# Altium schematic symbol library ICE40HX1K-TQ144.SchLib: 1 symbol
Pins are listed as number, name and electrical type; pins without a type are passive.

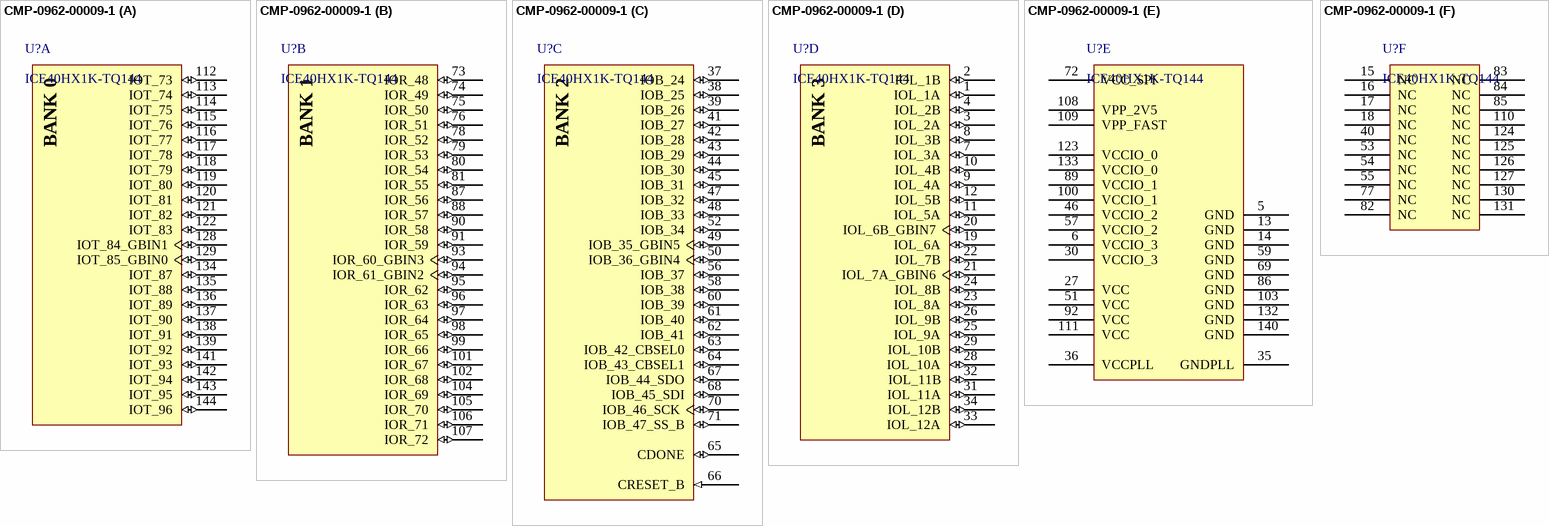
[diagram p0: symbol CMP-0962-00009-1]

## CMP-0962-00009-1
designator U?, comment ICE40HX1K-TQ144
iCE40 HX1K Series FPGA Family, 1280 Logic Cells, 1.2 V Core, 64 K Embedded RAM Bits, 144-pin TQFP, Pb-Free, Tray; Manufacturer: Lattice Semiconductor; Embedded RAM Bits: 64K; Logic Cells: 1280; Phase-Locked Loops: 1; Supply Voltage: 1.2V; Mounting Technology: Surface Mount; ComponentLink3URL: http://www.latticesemi.com/lit/docs/package/pkg.pdf; ComponentLink1URL: http://www.latticesemi.com/en; ComponentLink2Description: Datasheet; RoHS: TRUE; ComponentLink2URL: http://www.latticesemi.com/~/media/Documents/DataSheets/iCE/iCE40LPHXFamilyDataSheet.pdf; PackageVersion: Rev. 03.9, 02/2013; ComponentLink1Description: Manufacturer URL; PartNumber: ICE40HX1K-TQ144; DatasheetVersion: Rev. 02.9; PackageReference: TQFP-144; PackageDescription: 144-Pin Thin Quad Flat Package, Body 20 x 20 mm, Pitch 0.5 mm; Packing: Tray; ComponentLink3Description: Package Specification
footprint LATC-TQFP-144_L (QFP, 144-Leads, Body 20x20mm, Pitch 0.5mm, IPC High Density)
footprint LATC-TQFP-144_N (QFP, 144-Leads, Body 20x20mm, Pitch 0.5mm, IPC Medium Density)
footprint LATC-TQFP-144_M (QFP, 144-Leads, Body 20x20mm, Pitch 0.5mm, IPC Low Density)
part A pins: 112 IOT_73 (io), 113 IOT_74 (io), 114 IOT_75 (io), 115 IOT_76 (io), 116 IOT_77 (io), 117 IOT_78 (io), 118 IOT_79 (io), 119 IOT_80 (io), 120 IOT_81 (io), 121 IOT_82 (io), 122 IOT_83 (io), 128 IOT_84_GBIN1 (io), 129 IOT_85_GBIN0 (io), 134 IOT_87 (io), 135 IOT_88 (io), 136 IOT_89 (io), 137 IOT_90 (io), 138 IOT_91 (io), 139 IOT_92 (io), 141 IOT_93 (io), 142 IOT_94 (io), 143 IOT_95 (io), 144 IOT_96 (io)
part B pins: 73 IOR_48 (io), 74 IOR_49 (io), 75 IOR_50 (io), 76 IOR_51 (io), 78 IOR_52 (io), 79 IOR_53 (io), 80 IOR_54 (io), 81 IOR_55 (io), 87 IOR_56 (io), 88 IOR_57 (io), 90 IOR_58 (io), 91 IOR_59 (io), 93 IOR_60_GBIN3 (io), 94 IOR_61_GBIN2 (io), 95 IOR_62 (io), 96 IOR_63 (io), 97 IOR_64 (io), 98 IOR_65 (io), 99 IOR_66 (io), 101 IOR_67 (io), 102 IOR_68 (io), 104 IOR_69 (io), 105 IOR_70 (io), 106 IOR_71 (io), 107 IOR_72 (io)
part C pins: 37 IOB_24 (io), 38 IOB_25 (io), 39 IOB_26 (io), 41 IOB_27 (io), 42 IOB_28 (io), 43 IOB_29 (io), 44 IOB_30 (io), 45 IOB_31 (io), 47 IOB_32 (io), 48 IOB_33 (io), 49 IOB_35_GBIN5 (io), 50 IOB_36_GBIN4 (io), 52 IOB_34 (io), 56 IOB_37 (io), 58 IOB_38 (io), 60 IOB_39 (io), 61 IOB_40 (io), 62 IOB_41 (io), 63 IOB_42_CBSEL0 (io), 64 IOB_43_CBSEL1 (io), 65 CDONE (io) "Configuration Done. Includes a permanent weak pull-up resistor to VCCIO_2. If driving external devices with CDONE output, an external pull-up resistor to VCCIO_2 may be required. Refer to the TN1248, iCE40 Programming and (See Datasheet)", 66 CRESET_B (in) "Configuration Reset, active Low. Dedicated input. No internal pull-up resistor. Either actively drive externally or connect a 10 KOhm pull-up resistor to VCCIO_2.", 67 IOB_44_SDO (io), 68 IOB_45_SDI (io), 70 IOB_46_SCK (io), 71 IOB_47_SS_B (io)
part D pins: 1 IOL_1A (io), 2 IOL_1B (io), 3 IOL_2A (io), 4 IOL_2B (io), 7 IOL_3A (io), 8 IOL_3B (io), 9 IOL_4A (io), 10 IOL_4B (io), 11 IOL_5A (io), 12 IOL_5B (io), 19 IOL_6A (io), 20 IOL_6B_GBIN7 (io), 21 IOL_7A_GBIN6 (io), 22 IOL_7B (io), 23 IOL_8A (io), 24 IOL_8B (io), 25 IOL_9A (io), 26 IOL_9B (io), 28 IOL_10A (io), 29 IOL_10B (io), 31 IOL_11A (io), 32 IOL_11B (io), 33 IOL_12A (io), 34 IOL_12B (io)
part E pins: 5 GND (power) "GND - Ground. Dedicated pins. It is recommended that all GNDs are tied together.", 6 VCCIO_3 (power) "VCCIO - The power supply pins for I/O Bank 3. Dedicated pins. All VCCIOs located in the same bank are tied to the same supply.", 13 GND (power) "GND - Ground. Dedicated pins. It is recommended that all GNDs are tied together.", 14 GND (power) "GND - Ground. Dedicated pins. It is recommended that all GNDs are tied together.", 27 VCC (power) "VCC - The power supply pins for core logic. Dedicated pins. It is recommended that all VCCs are tied to the same supply.", 30 VCCIO_3 (power) "VCCIO - The power supply pins for I/O Bank 3. Dedicated pins. All VCCIOs located in the same bank are tied to the same supply.", 35 GNDPLL (power) "PLL GND - Ground. Dedicated pins. The sysCLOCK PLL has the DC ground connection made on the FPGA, so the external PLL ground connection (GNDPLL) must NOT be connected to the board’s ground.", 36 VCCPLL (power) "PLL VCC - Power. Dedicated pins. The PLL requires a separate power and ground that is quiet and stable to reduce the output clock jitter of the PLL", 46 VCCIO_2 (power) "VCCIO - The power supply pins for I/O Bank 2. Dedicated pins. All VCCIOs located in the same bank are tied to the same supply.", 51 VCC (power) "VCC - The power supply pins for core logic. Dedicated pins. It is recommended that all VCCs are tied to the same supply.", 57 VCCIO_2 (power) "VCCIO - The power supply pins for I/O Bank 2. Dedicated pins. All VCCIOs located in the same bank are tied to the same supply.", 59 GND (power) "GND - Ground. Dedicated pins. It is recommended that all GNDs are tied together.", 69 GND (power) "GND - Ground. Dedicated pins. It is recommended that all GNDs are tied together.", 72 VCC_SPI (power) "SPI interface voltage supply input. Must have a valid voltage even if configuring from NVCM.", 86 GND (power) "GND - Ground. Dedicated pins. It is recommended that all GNDs are tied together.", 89 VCCIO_1 (power) "VCCIO - The power supply pins for I/O Bank 1. Dedicated pins. All VCCIOs located in the same bank are tied to the same supply.", 92 VCC (power) "VCC - The power supply pins for core logic. Dedicated pins. It is recommended that all VCCs are tied to the same supply.", 100 VCCIO_1 (power) "VCCIO - The power supply pins for I/O Bank 1. Dedicated pins. All VCCIOs located in the same bank are tied to the same supply.", 103 GND (power) "GND - Ground. Dedicated pins. It is recommended that all GNDs are tied together.", 108 VPP_2V5 (power) "VPP_2V5 NVCM programming and operating supply", 109 VPP_FAST (power) "Optional fast NVCM programming supply. VPP_FAST, used only for fast production programming, must be left floating or unconnected in applications, except CM36 and CM49 packages MUST have the VPP_FAST ball connected to VCCIO_0 (See Datasheet)", 111 VCC (power) "VCC - The power supply pins for core logic. Dedicated pins. It is recommended that all VCCs are tied to the same supply.", 123 VCCIO_0 (power) "VCCIO - The power supply pins for I/O Bank 0. Dedicated pins. All VCCIOs located in the same bank are tied to the same supply.", 132 GND (power) "GND - Ground. Dedicated pins. It is recommended that all GNDs are tied together.", 133 VCCIO_0 (power) "VCCIO - The power supply pins for I/O Bank 0. Dedicated pins. All VCCIOs located in the same bank are tied to the same supply.", 140 GND (power) "GND - Ground. Dedicated pins. It is recommended that all GNDs are tied together."
part F pins: 15 NC "No connect", 16 NC "No connect", 17 NC "No connect", 18 NC "No connect", 40 NC "No connect", 53 NC "No connect", 54 NC "No connect", 55 NC "No connect", 77 NC "No connect", 82 NC "No connect", 83 NC "No connect", 84 NC "No connect", 85 NC "No connect", 110 NC "No connect", 124 NC "No connect", 125 NC "No connect", 126 NC "No connect", 127 NC "No connect", 130 NC "No connect", 131 NC "No connect"
part A text: BANK 0
part B text: BANK 1
part C text: BANK 2
part D text: BANK 3